# Altium schematic symbol library ADXL362.SchLib: 1 symbol
Pins are listed as number, name and electrical type; pins without a type are passive.

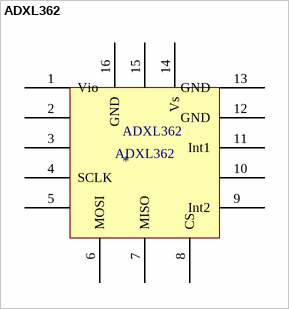
[diagram p0: symbol ADXL362]

## ADXL362
designator ADXL362
pins: 1 Vio, 2, 3, 4 SCLK, 5, 6 MOSI, 7 MISO, 8 CS, 9 Int2, 10, 11 Int1, 12 GND, 13 GND, 14 Vs, 15, 16 GND